# Altium integrated library ACS758LCB-050B-PFF-T.IntLib: 1 symbol
Pins are listed as number, name and electrical type; pins without a type are passive.

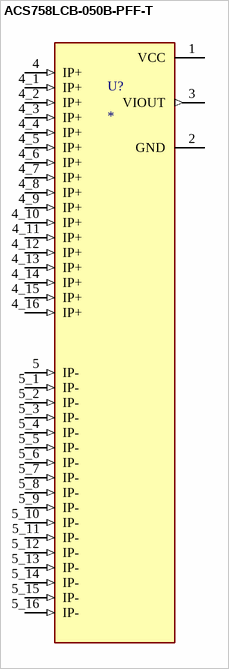
[diagram p0: symbol ACS758LCB-050B-PFF-T]

## ACS758LCB-050B-PFF-T
designator U?
Current Sensor 50A 1 Channel Hall Effect, Open Loop Bidirectional 5-CB Formed Leads, PFF; MF: Allegro MicroSystems LLC; MP: ACS758LCB-050B-PFF-T; SnapEDA_Link: https://www.snapeda.com/parts/ACS758LCB-050B-PFF-T/Allegro/view-part/?ref=snap; Package: 5-CB-5 Allegro MicroSystems LLC; Value: *; Check_prices: https://www.snapeda.com/parts/ACS758LCB-050B-PFF-T/Allegro/view-part/?ref=eda
footprint XDCR_ACS758LCB-050B-PFF-T
pins: 1 VCC (power), 2 GND (power), 3 VIOUT (out), 4 IP+ (in), 4_1 IP+ (in), 4_2 IP+ (in), 4_3 IP+ (in), 4_4 IP+ (in), 4_5 IP+ (in), 4_6 IP+ (in), 4_7 IP+ (in), 4_8 IP+ (in), 4_9 IP+ (in), 4_10 IP+ (in), 4_11 IP+ (in), 4_12 IP+ (in), 4_13 IP+ (in), 4_14 IP+ (in), 4_15 IP+ (in), 4_16 IP+ (in), 5 IP- (in), 5_1 IP- (in), 5_2 IP- (in), 5_3 IP- (in), 5_4 IP- (in), 5_5 IP- (in), 5_6 IP- (in), 5_7 IP- (in), 5_8 IP- (in), 5_9 IP- (in), 5_10 IP- (in), 5_11 IP- (in), 5_12 IP- (in), 5_13 IP- (in), 5_14 IP- (in), 5_15 IP- (in), 5_16 IP- (in)